# Altium footprint library PcbLib_switch.PcbLib: 1 footprints
Each footprint in its own frame and in the unit in brackets; x right, y up, seen from the top. Pads: shape width x height; smd on the part's side, far side on the other; paste and mask are expansions set on the pad; w line width, h text height; cw(c..) or ccw(c..) is an arc to the next point about the centre after c.
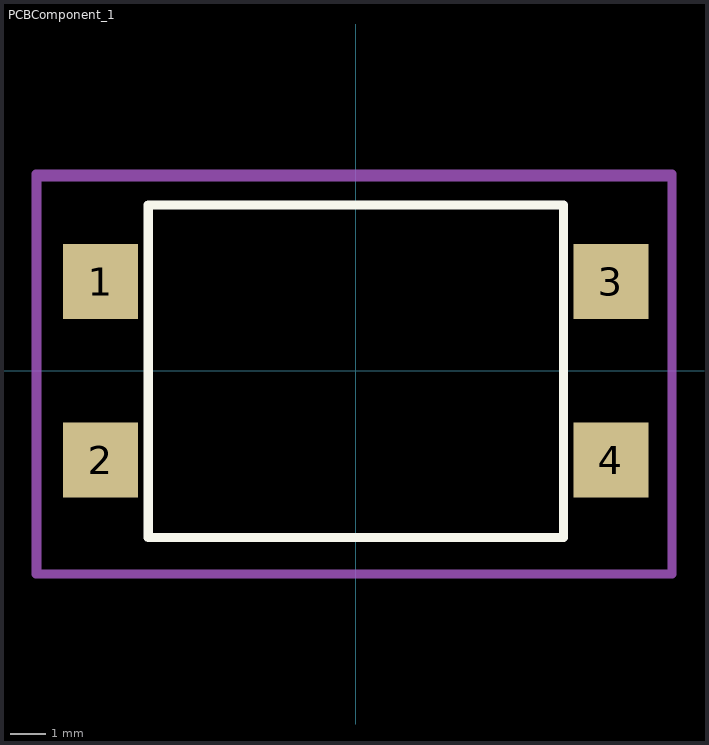
[diagram p0: the footprint, top view; thin cyan lines are the x and y axes]

## PCBComponent_1 [mm]
pads (4):
  rect 2.1x2.1 smd: 1(-7.15,2.5) 2(-7.15,-2.5) 3(7.15,2.5) 4(7.15,-2.5)
Top Overlay:
  lines w0.254: -5.817,-4.674 5.817,-4.674 5.817,4.648 -5.817,4.648 -5.817,-4.674
Mechanical15:
  lines w0.254: -8.966,-5.69 8.865,-5.69 8.865,5.512 -8.966,5.512 -8.966,-5.69
Mechanical29:
  lines w0.254: -8.941,-5.69 8.865,-5.69 8.865,5.436 -8.941,5.436 -8.941,-5.69
3D body "TS16-1212-85-BK-100-SMT-TR--3DModel-STEP-56544.STEP": height 8.8, standoff 0.1, extent -7.6,-6.229 7.6,5.771